# Altium footprint library Indutores_PCBLIB.PcbLib: 13 footprints
Each footprint in its own frame and in the unit in brackets; x right, y up, seen from the top. Pads: shape width x height; smd on the part's side, far side on the other; paste and mask are expansions set on the pad; w line width, h text height; cw(c..) or ccw(c..) is an arc to the next point about the centre after c.
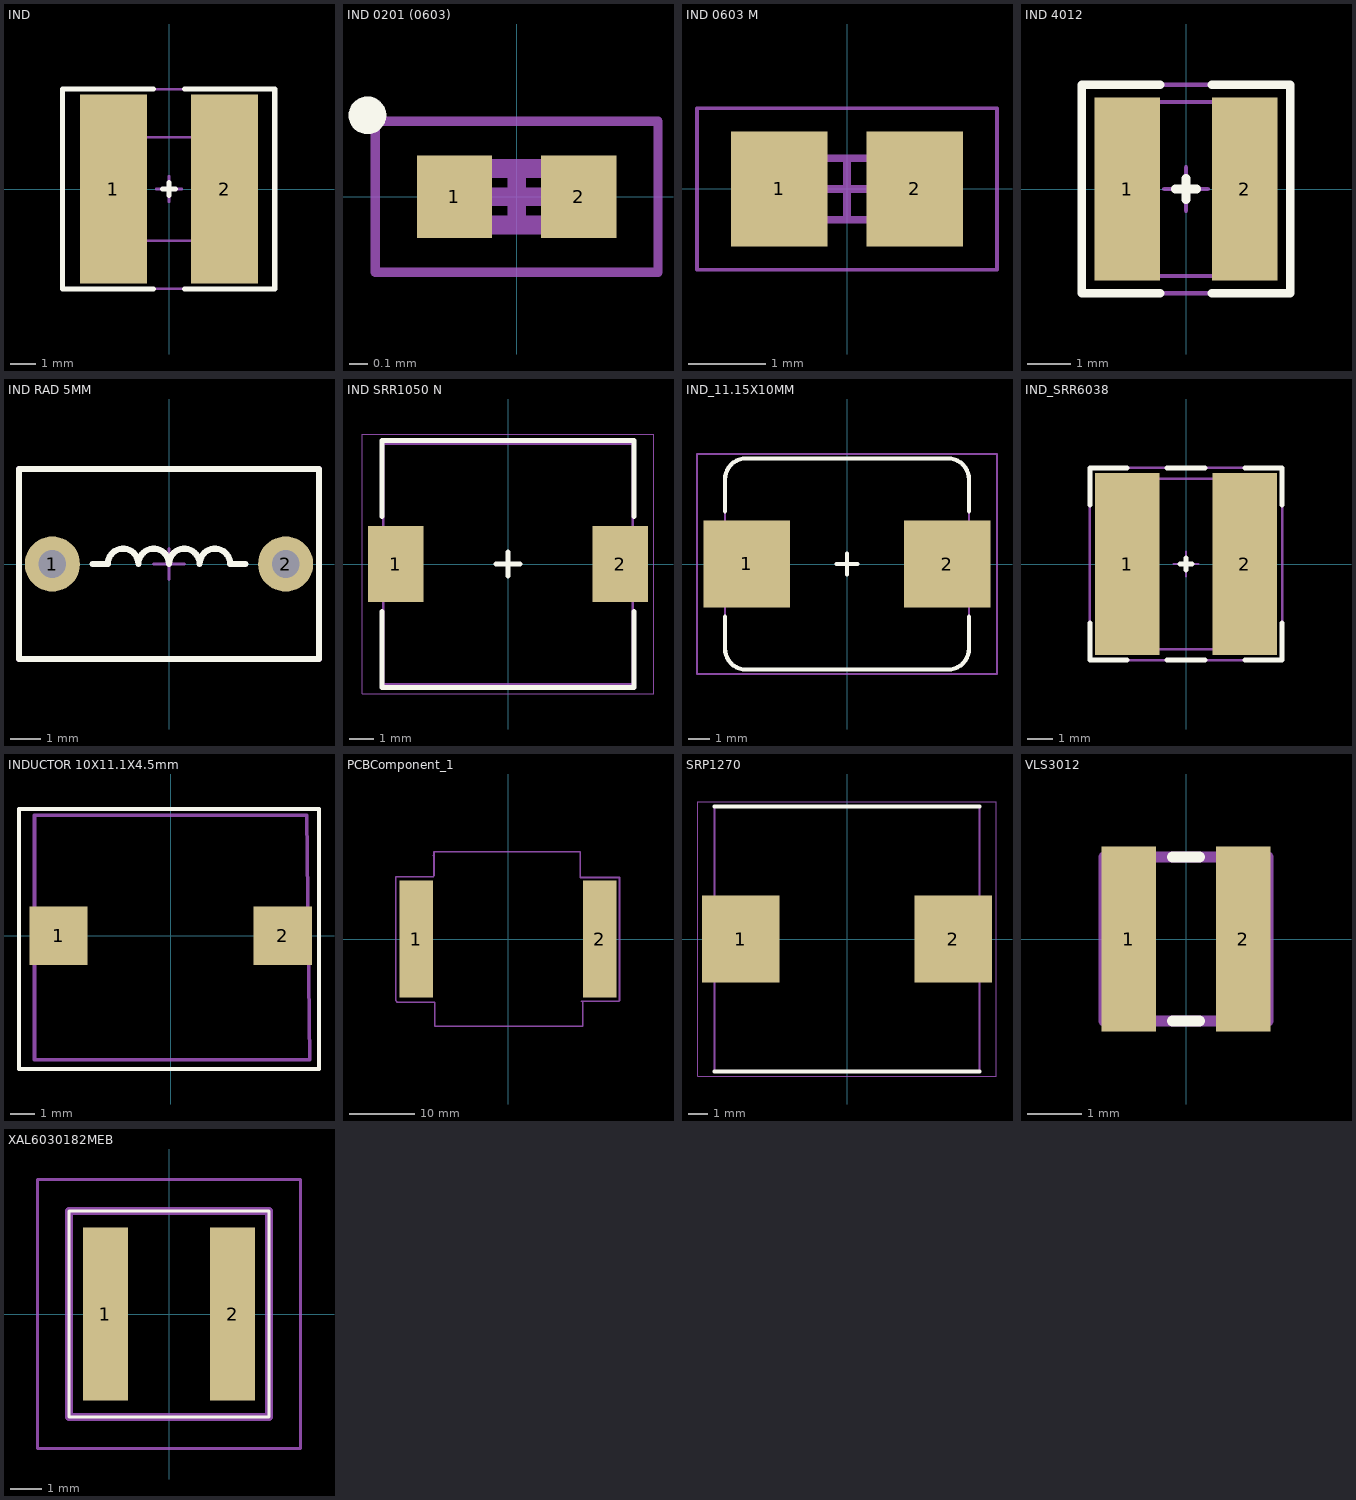
[diagram p0: the footprints below, top view; thin cyan lines are the x and y axes]

## IND [mm] "IND 4012"
height 1.2
pads (2):
  rect 2.6x7.3 smd: 1(-2.15,0) 2(2.15,0)
Top Overlay:
  lines w0.2: -0.6,-3.861 -4.115,-3.861 -4.115,3.861 -0.6,3.861 ; -0.25,0 0.25,0 ; 0,-0.25 0,0.25 ; 0.6,-3.861 4.089,-3.861 4.089,3.861 0.6,3.861
Mechanical 13:
  lines w0.1: -2,-1.85 -2,1.85 cw(c-1.85,1.85) -1.85,2 ; -2,-1.85 ccw(c-1.85,-1.85) -1.85,-2 1.85,-2 ccw(c1.85,-1.85) 2,-1.85 2,1.85 ccw(c1.85,1.85) 1.85,2 -1.85,2 ; -1,-2 -1.75,-1.425 -1.75,1.425 -1,2 ; 1,-2 1.75,-1.425 1.75,1.425 1,2
Mechanical 15:
  lines w0.1: -0.5,0 0.5,0 ; 0,-0.5 0,0.5 ; -4.115,-3.861 4.089,-3.861 4.089,3.861 -4.115,3.861 -4.115,-3.861
Mechanical 29:
  text ".Designator" at 0,0 h1
3D body: height 2.8, standoff 0, extent -4.115,-3.861 4.089,3.861

## IND 0201 (0603) [mm]
height 0.3
pads (2):
  rect 0.4x0.44 smd: 1(-0.33,0) 2(0.33,0)
Top Overlay:
  circle w0.1: c-0.792,0.432 r0.05
Mechanical 13:
  lines w0.1: -0.3,-0.15 -0.3,0.15 0.3,0.15 0.3,-0.15 -0.3,-0.15
Mechanical 15:
  lines w0.05: -0.75,-0.4 -0.75,0.4 0.75,0.4 0.75,-0.4 -0.75,-0.4
  lines w0.1: -0.15,0 0.15,0 ; 0,-0.15 0,0.15
3D body "Chip2PinSM127P600-8N.step": height 0.3, standoff 0, extent -0.3,-0.15 0.3,0.15

## IND 0603 M [mm] "Chip Inductor, 2-Leads, Body 1,60x0,80mm, IPC Low Density"
height 0.8
pads (2):
  rect 1.25x1.5 smd: 1(-0.88,0) 2(0.88,0)
Mechanical 13:
  lines w0.1: -0.8,-0.4 0.8,-0.4 0.8,0.4 -0.8,0.4 -0.8,-0.4
Mechanical 15:
  lines w0.05: -1.95,-1.05 1.95,-1.05 1.95,1.05 -1.95,1.05 -1.95,-1.05
  lines w0.1: -0.4,0 0.4,0 ; 0,-0.4 0,0.4
3D body "INDC1608X08M.step": height 0.8, standoff 0, extent -0.8,-0.4 0.8,0.4

## IND 4012 [mm] "IND 4012"
height 1.2
pads (2):
  rect 1.5x4.2 smd: 1(-1.35,0) 2(1.35,0)
Top Overlay:
  lines w0.2: -0.6,-2.4 -2.4,-2.4 -2.4,2.4 -0.6,2.4 ; -0.25,0 0.25,0 ; 0,-0.25 0,0.25 ; 0.6,-2.4 2.4,-2.4 2.4,2.4 0.6,2.4
Mechanical 13:
  lines w0.1: -2,-1.85 -2,1.85 cw(c-1.85,1.85) -1.85,2 ; -2,-1.85 ccw(c-1.85,-1.85) -1.85,-2 1.85,-2 ccw(c1.85,-1.85) 2,-1.85 2,1.85 ccw(c1.85,1.85) 1.85,2 -1.85,2 ; -1,-2 -1.75,-1.425 -1.75,1.425 -1,2 ; 1,-2 1.75,-1.425 1.75,1.425 1,2
Mechanical 15:
  lines w0.1: -0.5,0 0.5,0 ; 0,-0.5 0,0.5 ; -2.4,-2.4 -2.4,2.4 2.4,2.4 2.4,-2.4 -2.4,-2.4
Mechanical 29:
  text ".Designator" at 0,0 h1
3D body "IND_4012.STEP": height 1.3, standoff 0, extent -2,-2 2,2

## IND RAD 5MM [mm]
pads (2):
  round 1.8 hole 0.9: 1(-3.81,0) 2(3.81,0)
Top Overlay:
  lines w0.2: -2.5,0 -2,0 cw(c-1.5,0) -1,0 cw(c-0.5,0) 0,0 cw(c0.5,0) 1,0 cw(c1.5,0) 2,0 2.5,0 ; -4.9,-3.1 4.9,-3.1 4.9,3.1 -4.9,3.1 -4.9,-3.1
Mechanical 15:
  lines w0.1: -0.5,0 0.5,0 ; 0,-0.5 0,0.5
  lines w0.2: -4.9,-3.1 -4.9,3.1 4.9,3.1 4.9,-3.1 -4.9,-3.1
Mechanical 29:
  text "1" at -2.7,-1.4 h0.5
  text ".Designator" at -4.7,3.5 h0.5
3D body "IND RAD 10UH.STEP": height 7, standoff -2, extent -4.76,-3 4.74,3

## IND SRR1050 N [mm] "Precision Wire Wound Inductor, 2-Leads, Body 10,20x10,00mm, IPC Medium Density"
height 5.1
pads (2):
  rect 2.3x3.15 smd: 1(-4.675,0) 2(4.675,0)
Top Overlay:
  lines w0.2: -5.25,-1.975 -5.25,-5.15 5.25,-5.15 5.25,-1.975 ; -5.25,1.975 -5.25,5.15 5.25,5.15 5.25,1.975 ; -0.5,0 0.5,0 ; 0,-0.5 0,0.5
Mechanical 13:
  lines w0.1: -5.2,-5 5.2,-5 5.2,5 -5.2,5 -5.2,-5
Mechanical 15:
  lines w0.05: -6.075,-5.4 6.075,-5.4 6.075,5.4 -6.075,5.4 -6.075,-5.4
  lines w0.1: -0.5,0 0.5,0 ; 0,-0.5 0,0.5
Mechanical 29:
  text ".Designator" at 0,0 h1
3D body "SRR1050.STEP": height 4.8, standoff 0, extent -5.2,-5 5.2,5

## IND_11.15X10MM [mm] "ASPI-1040HI-100M-T05"
height 4
pads (2):
  rect 4.1x4.1 smd: 1(-4.75,0) 2(4.75,0)
Top Overlay:
  lines w0.2: -5.775,-2.5 -5.775,-4 ccw(c-4.775,-4) -4.775,-5 4.775,-5 ccw(c4.775,-4) 5.775,-4 5.775,-2.5 ; -5.775,2.5 -5.775,4 cw(c-4.775,4) -4.775,5 4.775,5 cw(c4.775,4) 5.775,4 5.775,2.5 ; -0.5,0 0.5,0 ; 0,-0.5 0,0.5
Mechanical 13:
  lines w0.1: -5.775,-4 ccw(c-4.775,-4) -4.775,-5 4.775,-5 ccw(c4.775,-4) 5.775,-4 5.775,4 ccw(c4.775,4) 4.775,5 -4.775,5 ccw(c-4.775,4) -5.775,4 -5.775,-4
Mechanical 15:
  lines w0.1: -7.1,-5.2 7.1,-5.2 7.1,5.2 -7.1,5.2 -7.1,-5.2
  lines w0.15: -0.381,0 0.381,0 ; 0,-0.381 0,0.381
3D body "IND_11x10MM.STEP": height 4, standoff 0, extent -5.775,-5 5.775,5

## IND_SRR6038 [mm] "IND_SRR6038 - 6.0x6.0x3.8mm"
height 3.8
pads (2):
  rect 2.6x7.3 smd: 1(-2.35,0) 2(2.35,0)
Top Overlay:
  lines w0.2: -3.85,-2.35 -3.85,-3.85 -2.35,-3.85 ; -3.85,2.35 -3.85,3.85 -2.35,3.85 ; -0.75,-3.85 0.75,-3.85 ; -0.75,3.85 0.75,3.85 ; -0.25,0 0.25,0 ; 0,-0.25 0,0.25 ; 2.35,-3.85 3.85,-3.85 3.85,-2.35 ; 2.35,3.85 3.85,3.85 3.85,2.35
Mechanical 13:
  lines w0.1: -3.4,-2.9 ccw(c-2.9,-2.9) -2.9,-3.4 2.9,-3.4 ccw(c2.9,-2.9) 3.4,-2.9 3.4,2.9 ccw(c2.9,2.9) 2.9,3.4 -2.9,3.4 ccw(c-2.9,2.9) -3.4,2.9 -3.4,-2.9
Mechanical 15:
  lines w0.1: -0.5,0 0.5,0 ; 0,-0.5 0,0.5 ; -3.85,-3.85 3.85,-3.85 3.85,3.85 -3.85,3.85 -3.85,-3.85
Mechanical 29:
  text ".Designator" at -2.95,3.55 h0.5
3D body "IND_SRR6038.STEP": height 4.1, standoff 0, extent -3.4,-3.4 3.4,3.4

## INDUCTOR 10X11.1X4.5mm [mm]
pads (2):
  rect 2.4x2.4 smd: 1(-4.6,0) 2(4.6,0)
Top Overlay:
  lines w0.152: -6.223,-5.461 -6.223,5.207 6.096,5.207 6.096,-5.461 -6.223,-5.461
Mechanical 15:
  lines w0.152: -5.588,-5.08 5.715,-5.08 5.588,4.953 -5.588,4.953 -5.588,-5.08
3D body "Indutor.STEP": height 4.8, standoff -0.1, extent -5.512,-5.047 5.588,4.953

## PCBComponent_1 [mm]
pads (2):
  rect 5.1x17.8 smd: 1(-14,0) 2(14,0)
Mechanical 15:
  lines w0.254: -11.43,12.7 -11.303,12.827 ; 11.176,-9.525 16.891,-9.525 17.018,-9.398 17.018,9.398 11.049,9.398 11.049,13.335 -0.889,13.335 -11.303,13.335 -11.303,12.827 ; 11.43,-9.525 11.43,-13.335 0.889,-13.335 -11.176,-13.335 -11.176,-9.652 -16.891,-9.652 -17.145,-9.398 -17.145,9.525 -11.43,9.525 -11.303,9.652 -11.303,12.827
3D body: height 1.27, standoff 0, extent -17.272,-13.208 17.145,13.589

## SRP1270 [mm]
pads (2):
  rect 4x4.5 smd: 1(-5.5,0) 2(5.5,0)
Top Overlay:
  lines w0.2: -6.85,-6.85 6.85,-6.85 ; -6.85,6.85 6.85,6.85
Mechanical 13:
  lines w0.1: -6.85,-6.85 6.85,-6.85 6.85,6.85 -6.85,6.85 -6.85,-6.85
Mechanical 15:
  lines w0.05: -7.7,-7.1 7.7,-7.1 7.7,7.1 -7.7,7.1 -7.7,-7.1
3D body "SRP1270-1R5M.stp": height 7, standoff 0, extent -6.85,-6.85 6.85,6.85

## VLS3012 [mm]
pads (2):
  rect 1x3.4 smd: 1(-1.05,0) 2(1.05,0)
Top Overlay:
  lines w0.2: -0.25,-1.5 0.25,-1.5 ; -0.25,1.5 0.25,1.5
Mechanical 13:
  lines w0.2: -1.5,-1.5 -1.5,1.5 1.5,1.5 1.5,-1.5 -1.5,-1.5

## XAL6030182MEB [mm]
pads (2):
  rect 1.43x5.5 smd: 1(-2.02,0) 2(2.02,0)
Top Overlay:
  lines w0.1: -3.18,-3.28 -3.18,3.28 3.18,3.28 3.18,-3.28 -3.18,-3.28
Mechanical 13:
  lines w0.254: -3.18,-3.28 -3.18,3.28 3.18,3.28 3.18,-3.28 -3.18,-3.28
Mechanical 15:
  lines w0.1: -4.18,-4.28 -4.18,4.28 4.18,4.28 4.18,-4.28 -4.18,-4.28
3D body: height 3.1, standoff 0, extent -3.175,-3.302 3.175,3.302